# Altium footprint library CONN-SPE-MOLEX_436500324.PcbLib: 1 footprints
Each footprint in its own frame and in the unit in brackets; x right, y up, seen from the top. Pads: shape width x height; smd on the part's side, far side on the other; paste and mask are expansions set on the pad; w line width, h text height; cw(c..) or ccw(c..) is an arc to the next point about the centre after c.
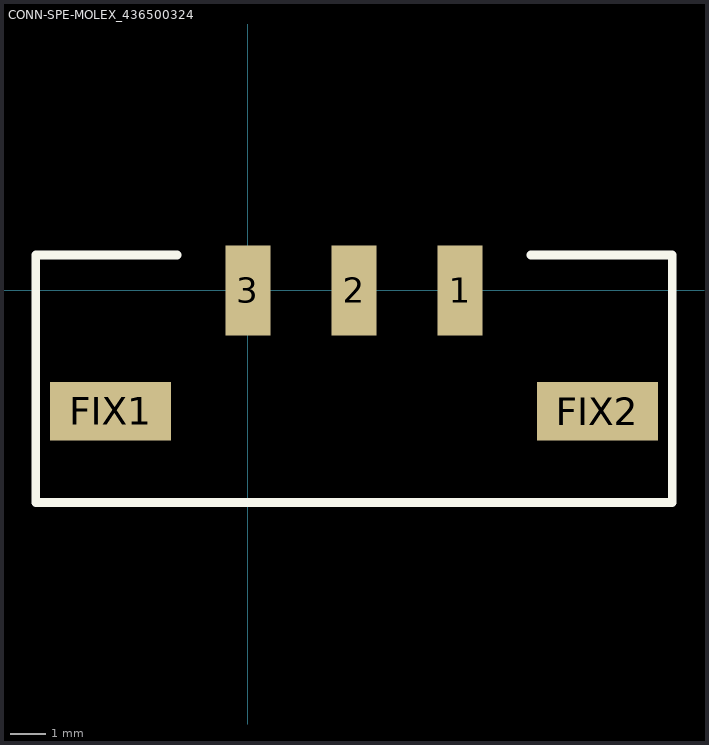
[diagram p0: the footprint, top view; thin cyan lines are the x and y axes]

## CONN-SPE-MOLEX_436500324 [mm]
pads (5):
  rect 1.27x2.54 smd: 1(6,0) 2(3,0) 3(0,0)
  rect 3.43x1.65 smd: FIX1(-3.885,-3.42) FIX2(9.885,-3.42)
Top Overlay:
  lines w0.25: -2,1 -6,1 -6,-6 12,-6 12,1 8,1
3D body: height 9.95, standoff 0.02, extent -5.325,-5.89 11.325,0.68